# Altium schematic symbol library altextraparts.SchLib: 8 symbols
Pins are listed as number, name and electrical type; pins without a type are passive.

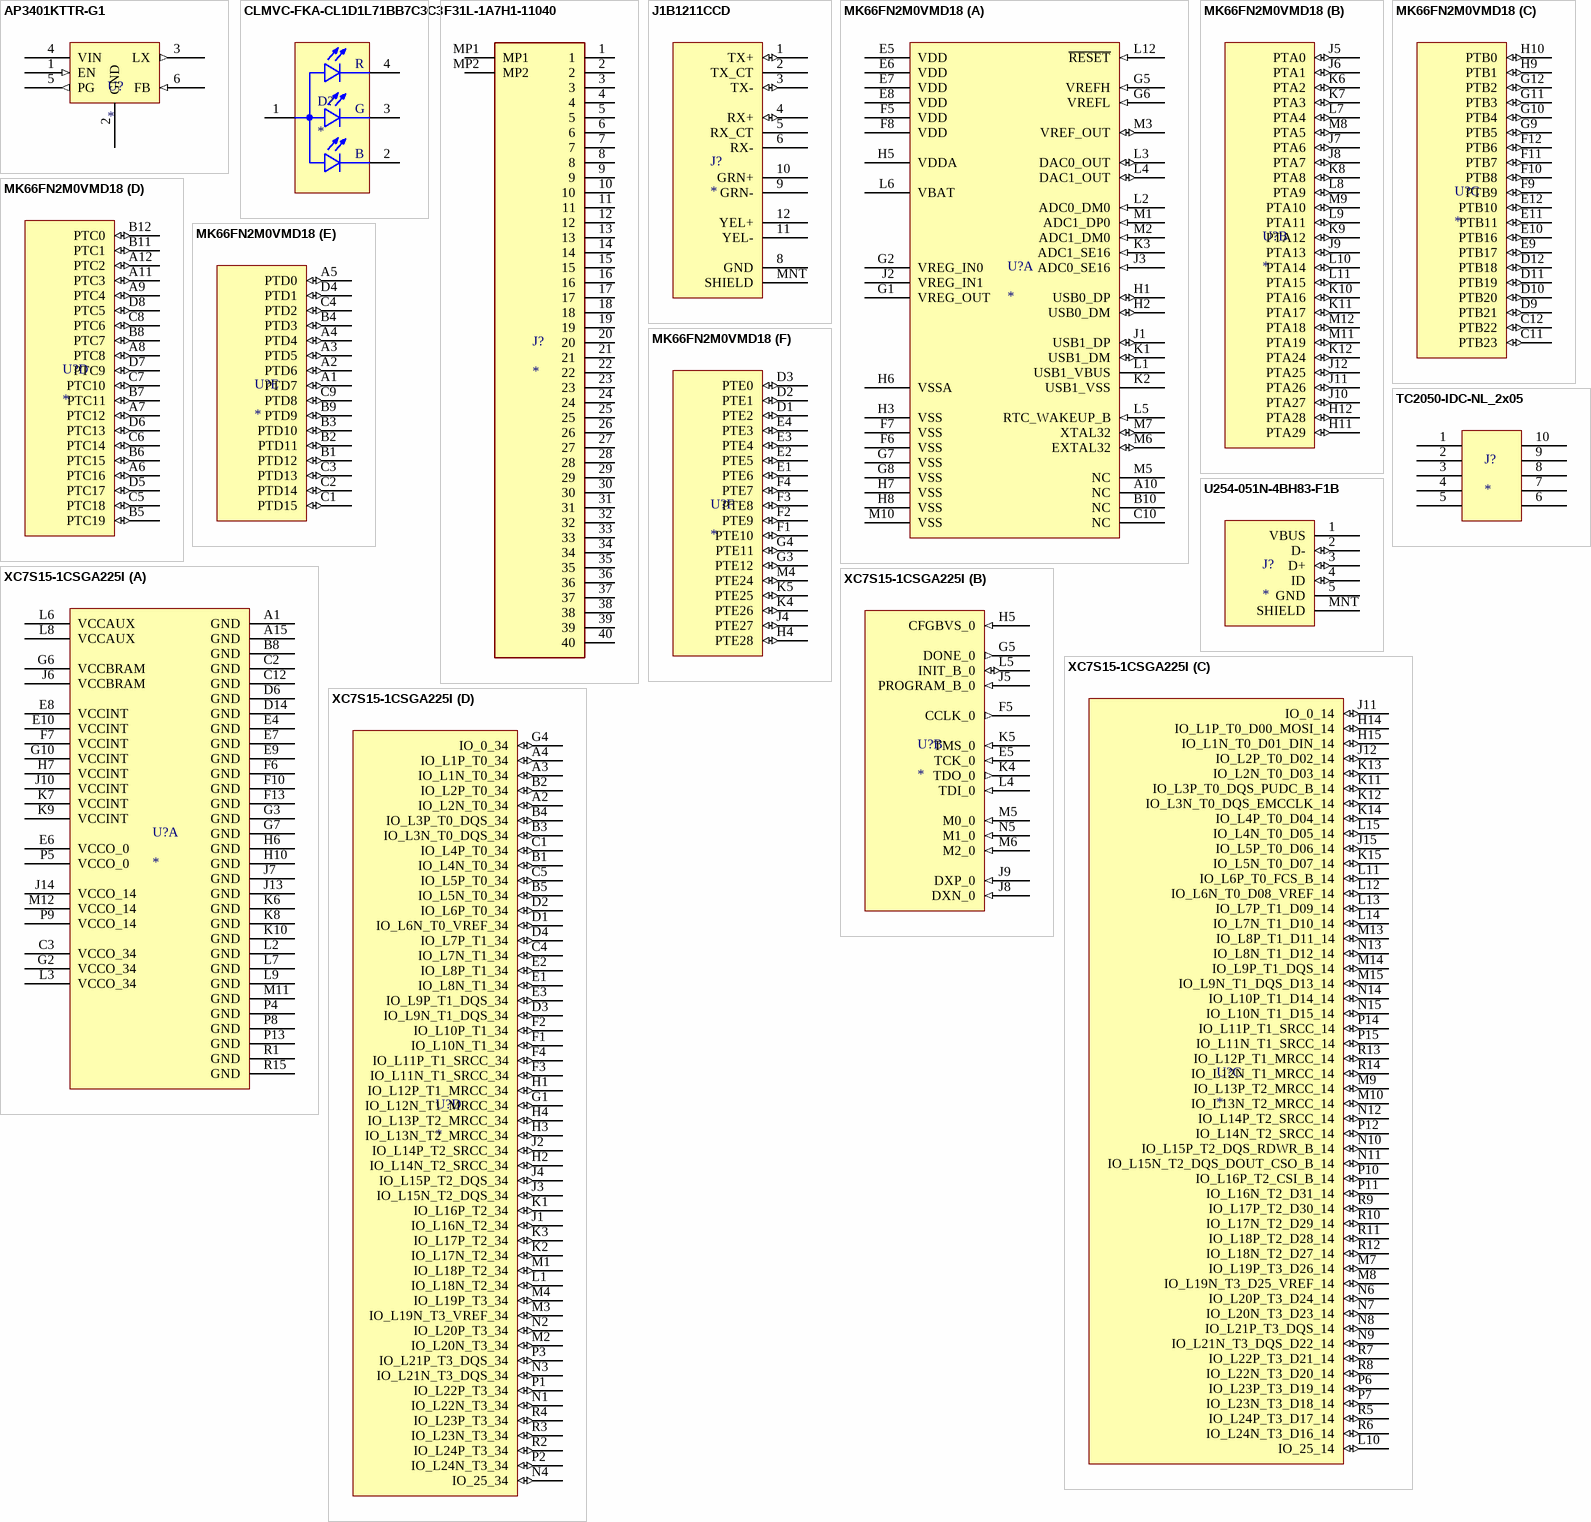
[diagram p0: symbols AP3401KTTR-G1 to XC7S15-1CSGA225I]

## AP3401KTTR-G1
designator U?
AP3401 Series 5.5 V 1 A 1.5 MHz 1 A Step-Down DC/DC Buck Converter - TSOT-26; Manufacturer: Diodes; Manufacturer Part Number: AP3401KTTR-G1; Output Type: Adjustable; Output Configuration: Positive; Number of Outputs: 1; Min Input Voltage: 2.5V; Max Input Voltage: 5.5V; Min Output Voltage: 600mV; Output Current: 1A; Switching Frequency: 1.5MHz; Synchronous Rectifier: Yes; Supplier 1: Digi-Key; RoHS: Yes; Category: Voltage Regulators - Switching; Stock 1: 2942; Pricing 1: 1=0.46000, 10=0.37400, 25=0.34200, 100=0.25440, 250=0.23056, 500=0.19080, 1000=0.14310 (USD); Mount: Surface Mount; Case/Package: SOT-23-6; Min Operating Temperature: -40°C; Max Operating Temperature: 85°C; Packaging: Tape and Reel; Max Output Voltage: 5.5V; RoHS Compliant: Yes; ComponentLink1URL: https://www.diodes.com/assets/Datasheets/AP3401.pdf?src-supplier=Digi-Key; ComponentLink1Description: https://www.diodes.com/assets/Datasheets/AP3401.pdf?src-supplier=Digi-Key; Supplier Part Number 1: AP3401KTTR-G1
footprint TSOT26 (SOT23, 6-Leads, Body 2.90x2.80mm, Pitch 0.95mm, IPC Medium Density)
pins: 1 EN (in), 2 GND (power), 3 LX (out), 4 VIN (power), 5 PG (out), 6 FB (in)

## CLMVC-FKA-CL1D1L71BB7C3C3
designator D?
Red, Green, Blue (RGB) 622nm Red, 530nm Green, 470nm Blue LED Indication - Discrete 2V Red, 3V Green, 3V Blue 4-SMD, J-Lead; MP: CLMVC-FKA-CL1D1L71BB7C3C3; MF: Cree Inc.; SnapEDA_Link: https://www.snapeda.com/parts/CLMVC-FKA-CL1D1L71BB7C3C3/Cree%20Inc./view-part/3120624/?ref=snap; Package: SMD-4 Cree Inc.; Check_prices: https://www.snapeda.com/parts/CLMVC-FKA-CL1D1L71BB7C3C3/Cree%20Inc./view-part/3120624/?ref=eda; Value: *; Purchase-URL: https://pricing.snapeda.com/search/part/CLMVC-FKA-CL1D1L71BB7C3C3/?ref=eda; Availability: Warning; Price: None
footprint LED_CLMVC-FKA-CL1D1L71BB7C3C3
pins: 1 A, 2 B_C, 3 G_C, 4 R_C
text: R; G; B

## F31L-1A7H1-11040
designator J?
Connector; Manufacturer_Name: Amphenol ICC / Aorora; Manufacturer_Part_Number: F31L-1A7H1-11040; Description: FFC & FPC Connectors; Datasheet Link: https://cdn.amphenol-icc.com/media/wysiwyg/files/drawing/f31l-1.pdf; Height: 2.55mm; Mouser Part Number: 649-F31L-1A7H1-11040; Mouser Price/Stock: https://www.mouser.co.uk/ProductDetail/Amphenol-ICC-Aorora/F31L-1A7H1-11040?qs=xZ%2FP%252Ba9zWqYDodVHBk05qA%3D%3D
footprint F31L1A7H111040
pins: 1, 2, 3, 4, 5, 6, 7, 8, 9, 10, 11, 12, 13, 14, 15, 16, 17, 18, 19, 20, 21, 22, 23, 24, 25, 26, 27, 28, 29, 30, 31, 32, 33, 34, 35, 36, 37, 38, 39, 40, MP1, MP2

## J1B1211CCD
designator J?
footprint J1B1211CCD
pins: 1 TX+ (io), 2 TX_CT, 3 TX- (io), 4 RX+ (io), 5 RX_CT, 6 RX-, 8 GND, 9 GRN-, 10 GRN+, 11 YEL-, 12 YEL+, MNT SHIELD

## MK66FN2M0VMD18
designator U?
NXP         MK66FN2M0VMD18             32 Bit Microcontroller, K6 Ethernet Series, ARM Cortex-M4F, 180 MHz, 2 MB, 256 KB, 144 Pins, MAPBGA; Manufacturer: NXP Freescale; Frequency: 180MHz; Interface: I2C,SPI,USB,CAN,Ethernet,IrDA,SD,UART,USART,EBI/EMI; Number of I/Os: 100; Oscillator Type: Internal; RAM Size: 256KB; Min Supply Voltage: 1.71V; Max Supply Voltage: 3.6V; Memory Type: FLASH; Memory Size: 2MB; Peripherals: POR,PWM,WDT,DMA,LVD; Supplier 1: Newark; RoHS: Yes; Category: Microcontrollers; Pricing 1: 160=19.99000, 250=19.88000, 500=17.75000 (USD); Case/Package: MAPBGA; Number of Pins: 144; Min Operating Temperature: -40°C; Max Operating Temperature: 105°C; Packaging: Tray; Core Architecture: ARM; REACH SVHC: No SVHC; RoHS Compliant: Yes; ComponentLink1URL: http://www.farnell.com/datasheets/2292635.pdf?src-supplier=Farnell; ComponentLink1Description: http://www.farnell.com/datasheets/2292635.pdf?src-supplier=Farnell; ComponentLink2URL: http://www.mouser.com/ds/2/302/K66P144M180SF5V2-782254.pdf?src-supplier=Mouser; ComponentLink2Description: http://www.mouser.com/ds/2/302/K66P144M180SF5V2-782254.pdf?src-supplier=Mouser; ComponentLink3URL: https://www.nxp.com/docs/en/data-sheet/K66P144M180SF5V2.pdf?src-supplier=Digi-Key; ComponentLink3Description: https://www.nxp.com/docs/en/data-sheet/K66P144M180SF5V2.pdf?src-supplier=Digi-Key; ComponentLink4URL: http://www.farnell.com/datasheets/1936773.pdf?src-supplier=Element14; ComponentLink4Description: http://www.farnell.com/datasheets/1936773.pdf?src-supplier=Element14; ComponentLink5URL: http://www.farnell.com/datasheets/2292635.pdf?src-supplier=Newark; ComponentLink5Description: http://www.farnell.com/datasheets/2292635.pdf?src-supplier=Newark; Supplier Part Number 1: 96AC0959; Manufacturer Part Number: MK66FN2M0VMD18
footprint NXP_144-MAPBGA (LBGA144, 1.0mm pitch, 13mm x 13mm body)
part A pins: A10 NC, B10 NC, C10 NC, E5 VDD (power), E6 VDD (power), E7 VDD (power), E8 VDD (power), F5 VDD (power), F6 VSS (power), F7 VSS (power), F8 VDD (power), G1 VREG_OUT (power), G2 VREG_IN0 (power), G5 VREFH (in), G6 VREFL (in), G7 VSS (power), G8 VSS (power), H1 USB0_DP (io), H2 USB0_DM (io), H3 VSS (power), H5 VDDA (power), H6 VSSA (power), H7 VSS (power), H8 VSS (power), J1 USB1_DP (io), J2 VREG_IN1 (power), J3 ADC0_SE16 (in), K1 USB1_DM (io), K2 USB1_VSS (power), K3 ADC1_SE16 (in), L1 USB1_VBUS (power), L2 ADC0_DM0 (in), L3 DAC0_OUT (io), L4 DAC1_OUT (io), L5 RTC_WAKEUP_B (in), L6 VBAT (power), L12 ~{RESET} (in), M1 ADC1_DP0 (in), M2 ADC1_DM0 (in), M3 VREF_OUT (io), M5 NC, M6 EXTAL32 (io), M7 XTAL32 (io), M10 VSS (power)
part B pins: H11 PTA29 (io), H12 PTA28 (io), J5 PTA0 (io), J6 PTA1 (io), J7 PTA6 (io), J8 PTA7 (io), J9 PTA13 (io), J10 PTA27 (io), J11 PTA26 (io), J12 PTA25 (io), K6 PTA2 (io), K7 PTA3 (io), K8 PTA8 (io), K9 PTA12 (io), K10 PTA16 (io), K11 PTA17 (io), K12 PTA24 (io), L7 PTA4 (io), L8 PTA9 (io), L9 PTA11 (io), L10 PTA14 (io), L11 PTA15 (io), M8 PTA5 (io), M9 PTA10 (io), M11 PTA19 (io), M12 PTA18 (io)
part C pins: C11 PTB23 (io), C12 PTB22 (io), D9 PTB21 (io), D10 PTB20 (io), D11 PTB19 (io), D12 PTB18 (io), E9 PTB17 (io), E10 PTB16 (io), E11 PTB11 (io), E12 PTB10 (io), F9 PTB9 (io), F10 PTB8 (io), F11 PTB7 (io), F12 PTB6 (io), G9 PTB5 (io), G10 PTB4 (io), G11 PTB3 (io), G12 PTB2 (io), H9 PTB1 (io), H10 PTB0 (io)
part D pins: A6 PTC16 (io), A7 PTC12 (io), A8 PTC8 (io), A9 PTC4 (io), A11 PTC3 (io), A12 PTC2 (io), B5 PTC19 (io), B6 PTC15 (io), B7 PTC11 (io), B8 PTC7 (io), B11 PTC1 (io), B12 PTC0 (io), C5 PTC18 (io), C6 PTC14 (io), C7 PTC10 (io), C8 PTC6 (io), D5 PTC17 (io), D6 PTC13 (io), D7 PTC9 (io), D8 PTC5 (io)
part E pins: A1 PTD7 (io), A2 PTD6 (io), A3 PTD5 (io), A4 PTD4 (io), A5 PTD0 (io), B1 PTD12 (io), B2 PTD11 (io), B3 PTD10 (io), B4 PTD3 (io), B9 PTD9 (io), C1 PTD15 (io), C2 PTD14 (io), C3 PTD13 (io), C4 PTD2 (io), C9 PTD8 (io), D4 PTD1 (io)
part F pins: D1 PTE2 (io), D2 PTE1 (io), D3 PTE0 (io), E1 PTE6 (io), E2 PTE5 (io), E3 PTE4 (io), E4 PTE3 (io), F1 PTE10 (io), F2 PTE9 (io), F3 PTE8 (io), F4 PTE7 (io), G3 PTE12 (io), G4 PTE11 (io), H4 PTE28 (io), J4 PTE27 (io), K4 PTE26 (io), K5 PTE25 (io), M4 PTE24 (io)

## TC2050-IDC-NL_2x05
designator J?
footprint TC2050-IDC-NL_2x05
pins: 1, 2, 3, 4, 5, 6, 7, 8, 9, 10

## U254-051N-4BH83-F1B
designator J?
CONN RCPT USB2.0 MICRO B SMD R/A
footprint U254-051N-4BH83-F1B
pins: 1 VBUS (power), 2 D- (io), 3 D+ (io), 4 ID (io), 5 GND (power), MNT SHIELD

## XC7S15-1CSGA225I
designator U?
FPGA Spartan-7 12800 Cells 28nm Technology 1V 225-Pin CSBGA Tray
footprint Xilinx_CSGA225 (BGA, 225-Leads, Body 13.00x13.00mmx1.20mm, Pitch 0.80mm)
part A pins: A1 GND (power), A15 GND (power), B8 GND (power), C2 GND (power), C3 VCCO_34 (power), C12 GND (power), D6 GND (power), D14 GND (power), E4 GND (power), E6 VCCO_0 (power), E7 GND (power), E8 VCCINT (power), E9 GND (power), E10 VCCINT (power), F6 GND (power), F7 VCCINT (power), F10 GND (power), F13 GND (power), G2 VCCO_34 (power), G3 GND (power), G6 VCCBRAM (power), G7 GND (power), G10 VCCINT (power), H6 GND (power), H7 VCCINT (power), H10 GND (power), J6 VCCBRAM (power), J7 GND (power), J10 VCCINT (power), J13 GND (power), J14 VCCO_14 (power), K6 GND (power), K7 VCCINT (power), K8 GND (power), K9 VCCINT (power), K10 GND (power), L2 GND (power), L3 VCCO_34 (power), L6 VCCAUX (power), L7 GND (power), L8 VCCAUX (power), L9 GND (power), M11 GND (power), M12 VCCO_14 (power), P4 GND (power), P5 VCCO_0 (power), P8 GND (power), P9 VCCO_14 (power), P13 GND (power), R1 GND (power), R15 GND (power)
part B pins: E5 TCK_0 (in), F5 CCLK_0 (out), G5 DONE_0 (out), H5 CFGBVS_0 (in), J5 PROGRAM_B_0 (in), J8 DXN_0 (in), J9 DXP_0 (in), K4 TDO_0 (out), K5 TMS_0 (in), L4 TDI_0 (in), L5 INIT_B_0 (io), M5 M0_0 (in), M6 M2_0 (in), N5 M1_0 (in)
part C pins: H14 IO_L1P_T0_D00_MOSI_14 (io), H15 IO_L1N_T0_D01_DIN_14 (io), J11 IO_0_14 (io), J12 IO_L2P_T0_D02_14 (io), J15 IO_L5P_T0_D06_14 (io), K11 IO_L3P_T0_DQS_PUDC_B_14 (io), K12 IO_L3N_T0_DQS_EMCCLK_14 (io), K13 IO_L2N_T0_D03_14 (io), K14 IO_L4P_T0_D04_14 (io), K15 IO_L5N_T0_D07_14 (io), L10 IO_25_14 (io), L11 IO_L6P_T0_FCS_B_14 (io), L12 IO_L6N_T0_D08_VREF_14 (io), L13 IO_L7P_T1_D09_14 (io), L14 IO_L7N_T1_D10_14 (io), L15 IO_L4N_T0_D05_14 (io), M7 IO_L19P_T3_D26_14 (io), M8 IO_L19N_T3_D25_VREF_14 (io), M9 IO_L13P_T2_MRCC_14 (io), M10 IO_L13N_T2_MRCC_14 (io), M13 IO_L8P_T1_D11_14 (io), M14 IO_L9P_T1_DQS_14 (io), M15 IO_L9N_T1_DQS_D13_14 (io), N6 IO_L20P_T3_D24_14 (io), N7 IO_L20N_T3_D23_14 (io), N8 IO_L21P_T3_DQS_14 (io), N9 IO_L21N_T3_DQS_D22_14 (io), N10 IO_L15P_T2_DQS_RDWR_B_14 (io), N11 IO_L15N_T2_DQS_DOUT_CSO_B_14 (io), N12 IO_L14P_T2_SRCC_14 (io), N13 IO_L8N_T1_D12_14 (io), N14 IO_L10P_T1_D14_14 (io), N15 IO_L10N_T1_D15_14 (io), P6 IO_L23P_T3_D19_14 (io), P7 IO_L23N_T3_D18_14 (io), P10 IO_L16P_T2_CSI_B_14 (io), P11 IO_L16N_T2_D31_14 (io), P12 IO_L14N_T2_SRCC_14 (io), P14 IO_L11P_T1_SRCC_14 (io), P15 IO_L11N_T1_SRCC_14 (io), R5 IO_L24P_T3_D17_14 (io), R6 IO_L24N_T3_D16_14 (io), R7 IO_L22P_T3_D21_14 (io), R8 IO_L22N_T3_D20_14 (io), R9 IO_L17P_T2_D30_14 (io), R10 IO_L17N_T2_D29_14 (io), R11 IO_L18P_T2_D28_14 (io), R12 IO_L18N_T2_D27_14 (io), R13 IO_L12P_T1_MRCC_14 (io), R14 IO_L12N_T1_MRCC_14 (io)
part D pins: A2 IO_L2N_T0_34 (io), A3 IO_L1N_T0_34 (io), A4 IO_L1P_T0_34 (io), B1 IO_L4N_T0_34 (io), B2 IO_L2P_T0_34 (io), B3 IO_L3N_T0_DQS_34 (io), B4 IO_L3P_T0_DQS_34 (io), B5 IO_L5N_T0_34 (io), C1 IO_L4P_T0_34 (io), C4 IO_L7N_T1_34 (io), C5 IO_L5P_T0_34 (io), D1 IO_L6N_T0_VREF_34 (io), D2 IO_L6P_T0_34 (io), D3 IO_L9N_T1_DQS_34 (io), D4 IO_L7P_T1_34 (io), E1 IO_L8N_T1_34 (io), E2 IO_L8P_T1_34 (io), E3 IO_L9P_T1_DQS_34 (io), F1 IO_L10N_T1_34 (io), F2 IO_L10P_T1_34 (io), F3 IO_L11N_T1_SRCC_34 (io), F4 IO_L11P_T1_SRCC_34 (io), G1 IO_L12N_T1_MRCC_34 (io), G4 IO_0_34 (io), H1 IO_L12P_T1_MRCC_34 (io), H2 IO_L14N_T2_SRCC_34 (io), H3 IO_L13N_T2_MRCC_34 (io), H4 IO_L13P_T2_MRCC_34 (io), J1 IO_L16N_T2_34 (io), J2 IO_L14P_T2_SRCC_34 (io), J3 IO_L15N_T2_DQS_34 (io), J4 IO_L15P_T2_DQS_34 (io), K1 IO_L16P_T2_34 (io), K2 IO_L17N_T2_34 (io), K3 IO_L17P_T2_34 (io), L1 IO_L18N_T2_34 (io), M1 IO_L18P_T2_34 (io), M2 IO_L20N_T3_34 (io), M3 IO_L19N_T3_VREF_34 (io), M4 IO_L19P_T3_34 (io), N1 IO_L22N_T3_34 (io), N2 IO_L20P_T3_34 (io), N3 IO_L21N_T3_DQS_34 (io), N4 IO_25_34 (io), P1 IO_L22P_T3_34 (io), P2 IO_L24N_T3_34 (io), P3 IO_L21P_T3_DQS_34 (io), R2 IO_L24P_T3_34 (io), R3 IO_L23N_T3_34 (io), R4 IO_L23P_T3_34 (io)